# Altium footprint library TSR2-24120.PcbLib: 1 footprints
Each footprint in its own frame and in the unit in brackets; x right, y up, seen from the top. Pads: shape width x height; smd on the part's side, far side on the other; paste and mask are expansions set on the pad; w line width, h text height; cw(c..) or ccw(c..) is an arc to the next point about the centre after c.
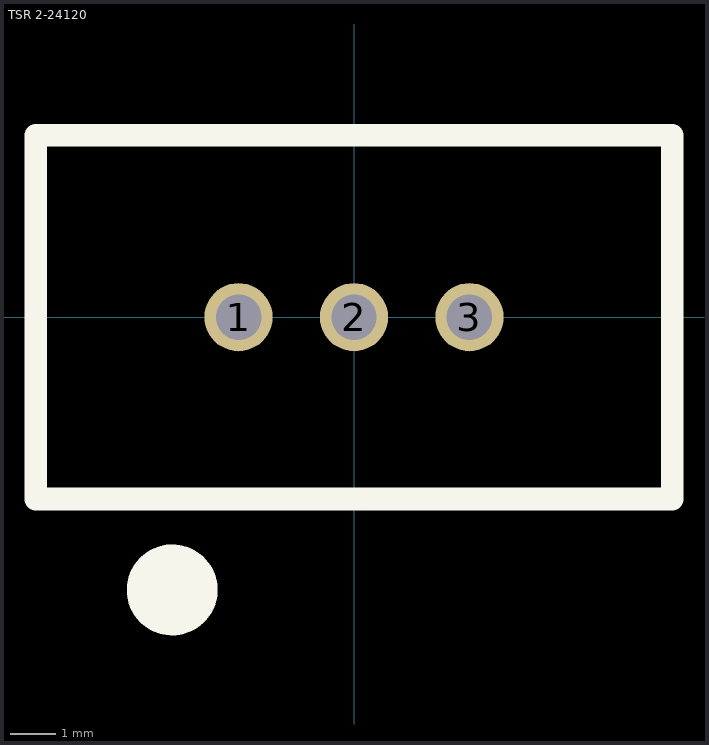
[diagram p0: the footprint, top view; thin cyan lines are the x and y axes]

## TSR 2-24120 [mm]
pads (3):
  round 1.5 hole 1: 1(-2.54,0) 2(0,0) 3(2.54,0)
Top Overlay:
  circle w1: c-4,-6 r0.5
  lines w0.5: -7,-4 7,-4 7,4 -7,4 -7,-4
3D body "tsr2_3d_drawing.step": height 10, standoff -4.2, extent -7,-3.75 7,3.75